# Altium schematic symbol library Components - 11.04.24 - 18.12.SchLib: 1 symbol
Pins are listed as number, name and electrical type; pins without a type are passive.

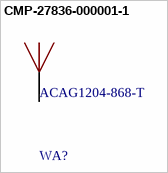
[diagram p0: symbol CMP-27836-000001-1]

## CMP-27836-000001-1
designator WA?, comment ACAG1204-868-T
RF ANT 868MHZ CHIP SOLDER SMD; Manufacturer: Abracon; Impedance: 50Ω; Gain: 2.63dB; Number Of Bands: 1; Bandwidth: 20MHz; Height: 1.7mm; Package: 0; RoHS: TRUE; Temperature Range High: +85°C; Device Class L1: Integrated Circuits (ICs); ComponentLink2URL: https://abracon.com/datasheets/ACAG1204-868-T.pdf; Automotive: No; Temperature Range Low: -40°C; ComponentLink2Description: Datasheet; Temperature: -40°C to +85°C; Category: Ant; Lead Free: Yes; Device Class L2: RF Semiconductors and Devices; Max Frequency: 868MHz; Manufacturer Part Number: ACAG1204-868-T; Octopart: https://octopart.com/acag1204-868-t-abracon-91024565; Digikey Description: RF ANT 868MHZ CHIP SOLDER SMD; Device Class L3: RF Antennas
footprint FP-ACAG1204-868-T-MFG
pins: 1